# Altium schematic symbol library SN65LVDM176DGK.SchLib: 1 symbol
Pins are listed as number, name and electrical type; pins without a type are passive.

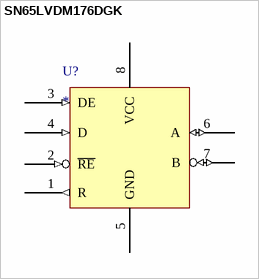
[diagram p0: symbol SN65LVDM176DGK]

## SN65LVDM176DGK
designator U?
High Speed Differential Line Receiver
pins: 1 R (out), 2 ~{RE} (in), 3 DE (in), 4 D (in), 5 GND (power), 6 A (io), 7 B (io), 8 VCC (power)